# EAGLE library part LEITUNGSSCHUTZSCHALTER_HILFSKONTAKT_11-12-23-24 (library e-sicherungen)
Sicherung mit Öffner und Schließer
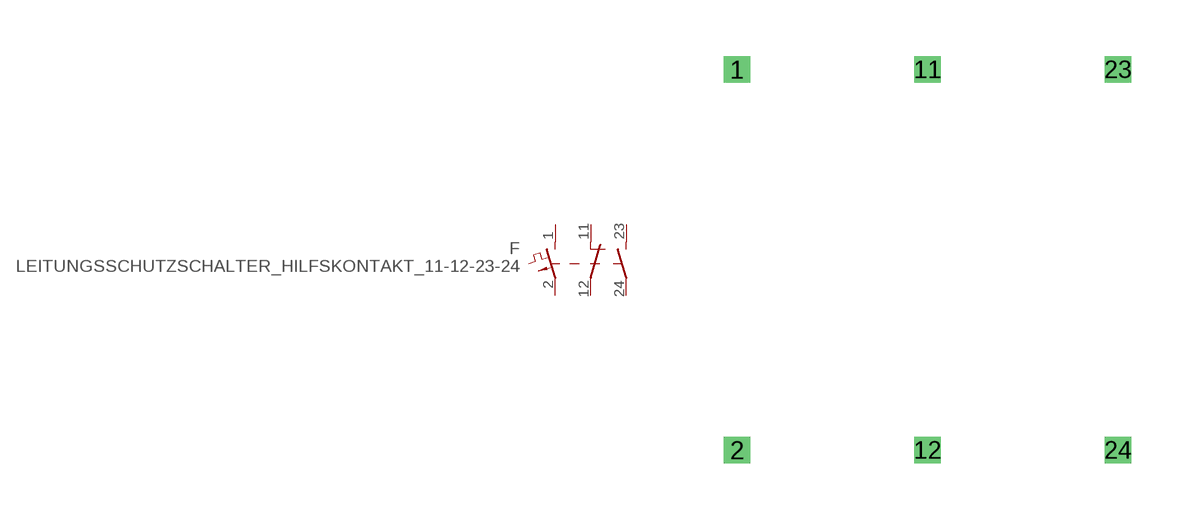
[diagram p2: symbol with the pads of LEITUNGSSCHUTZSCHALTER_HILFSKONTAKT_11-12-23-24; footprint LEITUNGSSCHUTZSCHALTER_HILFSKONTAKT_11-12-23-24]

Designator prefix F

## LEITUNGSSCHUTZSCHALTER_HILFSKONTAKT_11-12-23-24  [LEITUNGSSCHUTZSCHALTER_HILFSKONTAKT_11-12-23-24]
1  1  pas
2  2  pas
11  13  pas
12  14  pas
23  21  pas
24  22  pas

## Footprint LEITUNGSSCHUTZSCHALTER_HILFSKONTAKT_11-12-23-24 (pad centres in mm)
Dummy
drill 0.2 pad 0.6 square: 1 0,5.08; 2 0,-5.08; 11 5.08,5.08; 12 5.08,-5.08; 23 10.16,5.08; 24 10.16,-5.08